# EAGLE library part 74CBTLV16210 (library 74CBTLV16210_DL)
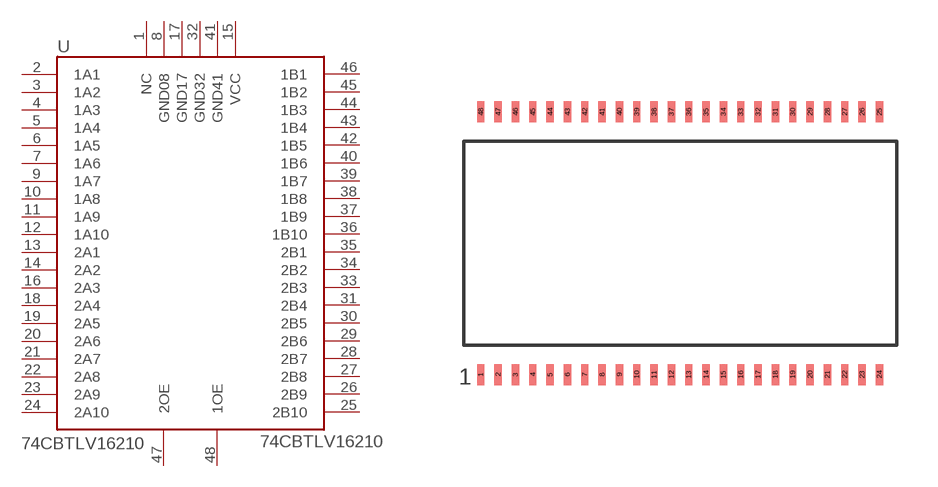
[diagram p0: symbol with the pads of 74CBTLV16210; footprint 74CBTLV16210]

Designator prefix -

## 74CBTLV16210  [74CBTLV16210]
1  NC  nc
2  1A1
3  1A2
4  1A3
5  1A4
6  1A5
7  1A6
8  GND08  pwr
9  1A7
10  1A8
11  1A9
12  1A10
13  2A1  in
14  2A2  in
15  VCC  pwr
16  2A3  in
17  GND17  pwr
18  2A4  in
19  2A5  in
20  2A6  in
21  2A7  in
22  2A8  in
23  2A9  in
24  2A10  in
25  2B10  out
26  2B9  out
27  2B8  out
28  2B7  out
29  2B6  out
30  2B5  out
31  2B4  out
32  GND32  pwr
33  2B3  out
34  2B2  out
35  2B1  out
36  1B10  out
37  1B9  out
38  1B8  out
39  1B7  out
40  1B6  out
41  GND41  pwr
42  1B5  out
43  1B4  out
44  1B3  out
45  1B2  out
46  1B1  out
47  2OE
48  1OE

## Footprint 74CBTLV16210 (pad centres in mm)
smd 0.273 x 0.765: 1 -7.302,-4.812; 2 -6.667,-4.812; 3 -6.032,-4.812; 4 -5.397,-4.812; 5 -4.762,-4.812; 6 -4.127,-4.812; 7 -3.492,-4.812; 8 -2.857,-4.812; 9 -2.222,-4.812; 10 -1.587,-4.812; 11 -0.953,-4.812; 12 -0.318,-4.812; 13 0.318,-4.812; 14 0.953,-4.812; 15 1.587,-4.812; 16 2.222,-4.812; 17 2.857,-4.812; 18 3.492,-4.812; 19 4.127,-4.812; 20 4.762,-4.812; 21 5.397,-4.812; 22 6.032,-4.812; 23 6.667,-4.812; 24 7.302,-4.812; 25 7.302,4.812; 26 6.667,4.812; 27 6.032,4.812; 28 5.397,4.812; 29 4.762,4.812; 30 4.127,4.812; 31 3.492,4.812; 32 2.857,4.812; 33 2.222,4.812; 34 1.587,4.812; 35 0.953,4.812; 36 0.318,4.812; 37 -0.318,4.812; 38 -0.953,4.812; 39 -1.587,4.812; 40 -2.222,4.812; 41 -2.857,4.812; 42 -3.492,4.812; 43 -4.127,4.812; 44 -4.762,4.812; 45 -5.397,4.812; 46 -6.032,4.812; 47 -6.667,4.812; 48 -7.302,4.812